# Altium schematic symbol library InactivityTracker.SchLib: 7 symbols
Pins are listed as number, name and electrical type; pins without a type are passive.

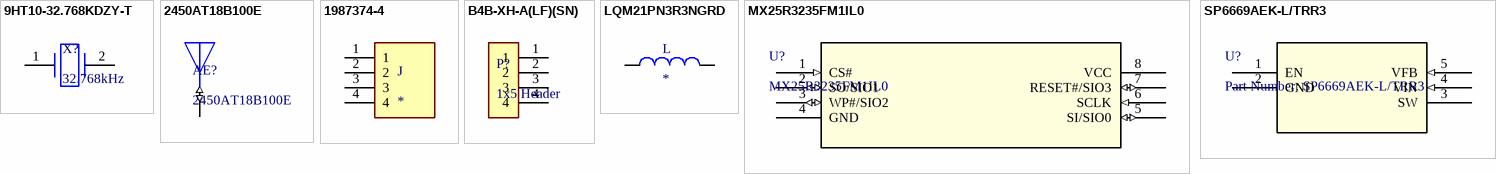
[diagram p0: symbols 9HT10-32.768KDZY-T to SP6669AEK-L/TRR3]

## 9HT10-32.768KDZY-T
designator X?, comment 32.768kHz
TXC - 9HT10-32.768KDZY-T - CRYSTAL, 32.768KHZ, 7PF, 3.2 X 1.5MM; Tolerance: 20ppm; ESR (Equivalent Series Resistance): 70kR; Supplier 1: Digi-Key; Manufacturer: TXC; Manufacturer Part Number: 9HT10-32.768KDZY-T; RoHS: Yes; Category: Crystals; Stock 1: 3909; Pricing 1: 1=0.66000, 10=0.55000, 50=0.49500, 100=0.44000, 500=0.41800, 1000=0.35200 (USD); Mount: Surface Mount; Case/Package: SMD/SMT; Number of Pins: 2; Min Operating Temperature: -40°C; Max Operating Temperature: 85°C; Termination: SMD/SMT; Package Quantity: 1; Frequency: 32.768kHz; Load Capacitance: 7pF; Packaging: Tape and Reel; Frequency Tolerance: 20ppm; Length: 0.126inch; Height: 0.033inch; Width: 1.5mm; Lead Free: Lead Free; REACH SVHC: No SVHC; ComponentLink1URL: https://datasheet.ciiva.com/856/9ht10-856052.pdf?src-supplier=Digi-Key; ComponentLink1Description: https://datasheet.ciiva.com/856/9ht10-856052.pdf?src-supplier=Digi-Key; ComponentLink2URL: https://datasheet.ciiva.com/856/9ht10-856053.pdf?src-supplier=Digi-Key; ComponentLink2Description: https://datasheet.ciiva.com/856/9ht10-856053.pdf?src-supplier=Digi-Key; ComponentLink3URL: https://datasheet.ciiva.com/8047/9ht10-8047909.pdf?src-supplier=Element14; ComponentLink3Description: https://datasheet.ciiva.com/8047/9ht10-8047909.pdf?src-supplier=Element14; ComponentLink4URL: https://datasheet.ciiva.com/856/9ht10-856054.pdf?src-supplier=Digi-Key; ComponentLink4Description: https://datasheet.ciiva.com/856/9ht10-856054.pdf?src-supplier=Digi-Key; Supplier Part Number 1: 887-1506-1-ND
footprint XTAL320X150X75
pins: 1, 2

## 2450AT18B100E
designator AE?
JOHANSON TECHNOLOGY - 2450AT18B100E - ANTENNA, CERAMIC, 2.45GHZ; Number of Bands: 1; Return Loss: -9.5dB; Max Power Dissipation: 3W; Max Frequency: 2.5GHz; Gain: -0.5dB; Impedance: 50R; Bandwidth: 100MHz; Supplier 1: Digi-Key; Manufacturer: Johanson; Manufacturer Part Number: 2450AT18B100E; RoHS: Yes; Category: RF Antennas; Stock 1: 218439; Pricing 1: 1=0.56000, 10=0.49500, 25=0.46520, 100=0.37950, 250=0.35252, 500=0.30000, 1000=0.24000 (USD); Mount: Surface Mount; Case/Package: CSMD; Contact Plating: Tin; Min Operating Temperature: -40°C; Max Operating Temperature: 85°C; Termination: Solder; Frequency: 2.45GHz; Package Quantity: 1; Packaging: Tape and Reel; Power Rating: 3W; Length: 3.2mm; Height: 0.051inch; Width: 1.6mm; Radiation Hardening: No; REACH SVHC: No SVHC; ComponentLink1URL: https://datasheet.ciiva.com/24025/antenna-2450at18b100-242422-24025839.pdf?src-supplier=Mouser; ComponentLink1Description: https://datasheet.ciiva.com/24025/antenna-2450at18b100-242422-24025839.pdf?src-supplier=Mouser; ComponentLink2URL: https://datasheet.ciiva.com/1124/1318299-1124918.pdf?src-supplier=Element14; ComponentLink2Description: https://datasheet.ciiva.com/1124/1318299-1124918.pdf?src-supplier=Element14; Supplier Part Number 1: 712-1006-1-ND
footprint ANT_2450AT18B100E
pins: 1 (io)

## 1987374-4
designator J
Pin Connector AMPMODU II PIN HEADER SINGLE ROW 4 POS; MP: 1987374-4; MF: TE Connectivity; Price: None; Availability: Unavailable; Package: None; TE_purchase_URL: https://www.te.com/usa-en/product-1987374-4.html?te_bu=Cor&te_type=disp&te_campaign=seda_glo_cor-seda-global-disp-prtnr-fy19-seda-model-bom-cta_sma-317_1&elqCampaignId=32493; Value: *; SnapEDA_Link: https://www.snapeda.com/parts/1987374-4/TE%20Connectivity/view-part/3100872/?ref=snap
footprint TE_1987374-4
pins: 1, 2, 3, 4

## B4B-XH-A(LF)(SN)
designator P?, comment 1x5 Header
JST (JAPAN SOLDERLESS TERMINALS) - B4B-XH-A (LF)(SN) - Wire-To-Board-Steckverbinder, vertikal, 2.5 mm, 4 Kontakt(e), Stiftleiste, Baureihe XH; Current Rating: 3A; Gender: Male; Contact Resistance: 20mR; Voltage Rating (AC): 250V; Connector Type: Male Pin; Number of Positions: 4; Insulation Resistance: 1GR; Pitch: 2.5mm; Wire/Cable Gauge: 22AWG; Supplier 1: Arrow; Manufacturer: JST; Manufacturer Part Number: B4B-XH-A(LF)(SN); RoHS: Yes; Category: FFC / FPC; Mount: Through Hole; Contact Material: Brass; Material: Polyamide; Contact Plating: Tin,Copper,Lead; Color: Natural; Housing Material: Polyamide; Housing Color: White; Min Operating Temperature: -25°C; Max Operating Temperature: 85°C; Number of Rows: 1; Max Current Rating: 3A; Package Quantity: 500; Packaging: Bulk; Voltage Rating: 250V; Termination: Press-Fit; Max Voltage Rating (AC): 250V; Max Voltage Rating (DC): 250V; Number of Contacts: 4; Orientation: Straight; Length: 12.4mm; Lead Pitch: 2.5mm; Depth: 5.75mm; REACH SVHC: No SVHC; Lead Free: Lead Free; ComponentLink1URL: https://datasheet.ciiva.com/26894/getdatasheetpartid-455616-26894787.pdf?src-supplier=Verical; ComponentLink1Description: https://datasheet.ciiva.com/26894/getdatasheetpartid-455616-26894787.pdf?src-supplier=Verical; ComponentLink2URL: https://datasheet.ciiva.com/26924/getdatasheetpartid-640571-26924035.pdf?src-supplier=Verical; ComponentLink2Description: https://datasheet.ciiva.com/26924/getdatasheetpartid-640571-26924035.pdf?src-supplier=Verical; ComponentLink3URL: https://datasheet.ciiva.com/16203/b4b-xh-alfsn-16203642.pdf?src-supplier=Future+Electronics; ComponentLink3Description: https://datasheet.ciiva.com/16203/b4b-xh-alfsn-16203642.pdf?src-supplier=Future+Electronics; ComponentLink4URL: https://datasheet.ciiva.com/726/exh-726404.pdf?src-supplier=Digi-Key; ComponentLink4Description: https://datasheet.ciiva.com/726/exh-726404.pdf?src-supplier=Digi-Key; Supplier Part Number 1: B4B-XH-A(LF)(SN)
footprint JST_B4B-XH-A(LF)(SN)
pins: 1, 2, 3, 4

## LQM21PN3R3NGRD
designator L
Inductor with Inductance: 3.3uH Tol. +/-30%, Package: 0805 _2012_; MF: Murata; MP: LQM21PN3R3NGRD; Digi-Key_Purchase_URL: https://www.digikey.com/product-detail/en/murata-electronics/LQM21PN3R3NGRD/490-11718-1-ND/5333558?utm_source=snapeda&utm_medium=aggregator&utm_campaign=symbol; Value: *; Digi-Key_Part_Number: 490-11718-1-ND; SnapEDA_Link: https://www.snapeda.com/parts/LQM21PN3R3NGRD/Murata%20Electronics%20North%20America/view-part/1523369/?ref=snap; Package: 2012 Murata
footprint INDC2012X100N
pins: 1, 2

## MX25R3235FM1IL0
designator U?
FLASH - NOR Memory IC 32Mb (4M x 8) SPI 80MHz 8-SOP; Vendor: Macronix; Built_By: EMA_Cory; Manufacturer_Part_Number: MX25R3235FM1IL0; Copyright: Copyright (C) 2018 Accelerated Designs. All rights reserved; RefDes: RefDes; Type: DEV; Value: Value
footprint SOP_8L_150
pins: 1 CS# (in), 2 SO/SIO1 (io), 3 WP#/SIO2 (io), 4 GND, 5 SI/SIO0 (io), 6 SCLK (in), 7 RESET#/SIO3 (io), 8 VCC (power)

## SP6669AEK-L/TRR3
designator U?, comment Part Number: SP6669AEK-L/TRR3
No Description Available; Vendor: Exar; Built_By: EMA_Jessica; Manufacturer_Part_Number: SP6669AEK-L/TRR3; Copyright: Copyright (C) 2018 Accelerated Designs. All rights reserved; RefDes: RefDes; Type: DEV; Value: Value
footprint SOT-23-5_VAR-AA
pins: 1 EN, 2 GND, 3 SW, 4 VIN (in), 5 VFB (in)